# Altium integrated library TI Power Management Linear Regulator Single Channel LDO (400-7500mA).IntLib: 1408 symbols (part 53 of 60)
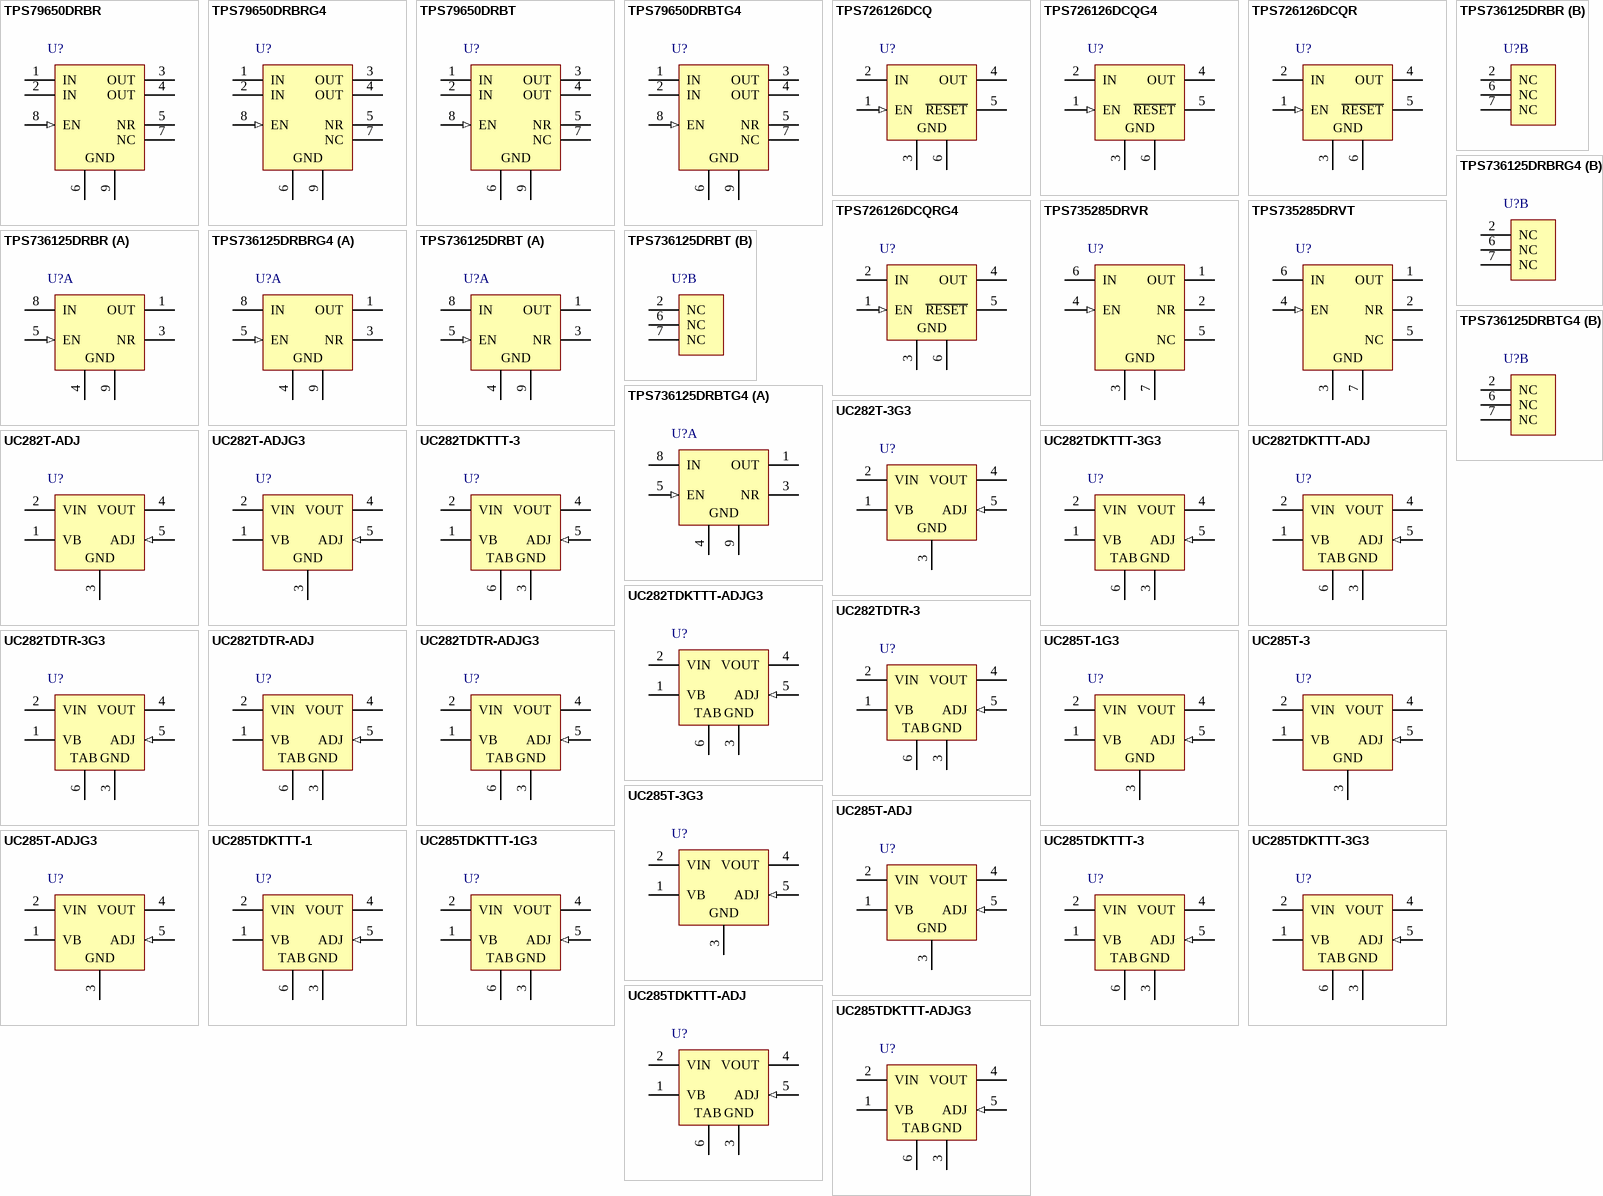
[diagram p102: symbols TPS79650DRBR to UC285TDKTTT-ADJG3]

## UC285T-3
designator U?
Single Output Fast Transient Response LDO, 5 A, Fixed 2.5 V Output, 2.8 to 7.5 V Input, 5-pin TO-220 (KC), -40 to 85 degC, Green (RoHS & no Sb/Br); Manufacturer: Texas Instruments; PartNumber: UC285T-3; Accuracy(%): 1; Fixed Output Options(V): 2.5; Iout(Max)(A): 5; Iq(Typ)(mA): 40; SubFamily: Single Channel LDO; Vdo(Typ)(mV): 350; Vin(Max)(V): 7.5; Vin(Min)(V): 2.8; DatasheetVersion: SLUS212F; PackageVersion: 4040208/F; PackageReference: KC5; PackageDescription: 5-Pin Plastic Flange Mount; Supplier 1: Digi-Key; Supplier Part Number 1: 296-15155-5-ND; Supplier 2: Mouser; Supplier Part Number 2: 595-UC285T-3; Eco-Plan: Green (RoHS & no Sb/Br); Vout Adj(Max)(V): 2.5; Vout Adj(Min)(V): 2.5; Mounting Technology: Through Hole; ComponentLink1Description: Manufacturer URL; ComponentLink1URL: http://www.ti.com/; ComponentLink2Description: Datasheet; ComponentLink2URL: http://www.ti.com/general/docs/lit/getliterature.tsp?genericPartNumber=UC285-3&fileType=pdf; ComponentLink3Description: Package Specification; ComponentLink3URL: http://www.ti.com/litv/pdf/msot008c
footprint TI-KC5 (FM, 5-Leads, Body 10.16x8.46mm, Pitch 1.7mm,)
pins: 1 VB (power) "Supplies power to all circuits of the regulator except the output power transistor. The 2-V headroom from VB to VOUT allows the use of a Darlington output stage for inherently low output impedance and fast response. (Dropout (See Datasheet)", 2 VIN (power) "Supplies the current to the collector of the output power transistor only. The dropout (VIN-VOUT) is under 100 mV for light loads; maximum dropout is 490 mV at 5 A for TJ = 0degreesC to 100degreesC. (Dropout is derated for (See Datasheet)", 3 GND (power) "For accurate results, the GND pin should be referenced to the load ground.", 4 VOUT (power) "This pin should be connected to the load via a low impedance path. Avoid connectors which add significant inductance and resistance. Note that even though a Kelvin sense is available through a 5-pin package, care must be (See Datasheet)", 5 ADJ (in) "In the adjustable version, the user programs the output voltage with two external resistors. The resistors should be 0.1% for high accuracy. The output amplifier is configured as a noninverting operational amplifier. The (See Datasheet)"

## UC285T-3G3
designator U?
Single Output Fast Transient Response LDO, 5 A, Fixed 2.5 V Output, 2.8 to 7.5 V Input, 5-pin TO-220 (KC), -40 to 85 degC, Green (RoHS & no Sb/Br); Manufacturer: Texas Instruments; PartNumber: UC285T-3G3; Accuracy(%): 1; Fixed Output Options(V): 2.5; Iout(Max)(A): 5; Iq(Typ)(mA): 40; SubFamily: Single Channel LDO; Vdo(Typ)(mV): 350; Vin(Max)(V): 7.5; Vin(Min)(V): 2.8; DatasheetVersion: SLUS212F; PackageVersion: 4040208/F; PackageReference: KC5; PackageDescription: 5-Pin Plastic Flange Mount; Supplier 1: Digi-Key; Supplier Part Number 1: UC285T-3G3-ND; Supplier 2: Mouser; Supplier Part Number 2: 595-UC285T-3G3; Eco-Plan: Green (RoHS & no Sb/Br); Vout Adj(Max)(V): 2.5; Vout Adj(Min)(V): 2.5; Mounting Technology: Through Hole; ComponentLink1Description: Manufacturer URL; ComponentLink1URL: http://www.ti.com/; ComponentLink2Description: Datasheet; ComponentLink2URL: http://www.ti.com/general/docs/lit/getliterature.tsp?genericPartNumber=UC285-3&fileType=pdf; ComponentLink3Description: Package Specification; ComponentLink3URL: http://www.ti.com/litv/pdf/msot008c
footprint TI-KC5 (FM, 5-Leads, Body 10.16x8.46mm, Pitch 1.7mm,)
pins: 1 VB (power) "Supplies power to all circuits of the regulator except the output power transistor. The 2-V headroom from VB to VOUT allows the use of a Darlington output stage for inherently low output impedance and fast response. (Dropout (See Datasheet)", 2 VIN (power) "Supplies the current to the collector of the output power transistor only. The dropout (VIN-VOUT) is under 100 mV for light loads; maximum dropout is 490 mV at 5 A for TJ = 0degreesC to 100degreesC. (Dropout is derated for (See Datasheet)", 3 GND (power) "For accurate results, the GND pin should be referenced to the load ground.", 4 VOUT (power) "This pin should be connected to the load via a low impedance path. Avoid connectors which add significant inductance and resistance. Note that even though a Kelvin sense is available through a 5-pin package, care must be (See Datasheet)", 5 ADJ (in) "In the adjustable version, the user programs the output voltage with two external resistors. The resistors should be 0.1% for high accuracy. The output amplifier is configured as a noninverting operational amplifier. The (See Datasheet)"

## UC285T-ADJ
designator U?
Single Output Fast Transient Response LDO, 5 A, Adjustable 1.2 to 6 V Output, 1.7 to 7.5 V Input, with Reverse Current Protection, 5-pin TO-220 (KC), -40 to 100 degC, Green (RoHS & no Sb/Br); Manufacturer: Texas Instruments; PartNumber: UC285T-ADJ; Accuracy(%): 1; Iout(Max)(A): 5; Iq(Typ)(mA): 8; SubFamily: Single Channel LDO; Vdo(Typ)(mV): 350; Vin(Max)(V): 7.5; Vin(Min)(V): 1.7; Vout Adj(Max)(V): 6; Vout Adj(Min)(V): 1.2; DatasheetVersion: SLUS212F; PackageVersion: 4040208/F; PackageReference: KC5; PackageDescription: 5-Pin Plastic Flange Mount; Supplier 1: Digi-Key; Supplier Part Number 1: 296-15156-5-ND; Supplier 2: Newark; Supplier Part Number 2: 61H5617; Supplier 3: Mouser; Supplier Part Number 3: 595-UC285T-ADJ; Eco-Plan: Green (RoHS & no Sb/Br); Mounting Technology: Through Hole; ComponentLink1Description: Manufacturer URL; ComponentLink1URL: http://www.ti.com/; ComponentLink2Description: Datasheet; ComponentLink2URL: http://www.ti.com/general/docs/lit/getliterature.tsp?genericPartNumber=UC285-ADJ&fileType=pdf; ComponentLink3Description: Package Specification; ComponentLink3URL: http://www.ti.com/litv/pdf/msot008c
footprint TI-KC5 (FM, 5-Leads, Body 10.16x8.46mm, Pitch 1.7mm,)
pins: 1 VB (power) "Supplies power to all circuits of the regulator except the output power transistor. The 2-V headroom from VB to VOUT allows the use of a Darlington output stage for inherently low output impedance and fast response. (Dropout (See Datasheet)", 2 VIN (power) "Supplies the current to the collector of the output power transistor only. The dropout (VIN-VOUT) is under 100 mV for light loads; maximum dropout is 490 mV at 5 A for TJ = 0degreesC to 100degreesC. (Dropout is derated for (See Datasheet)", 3 GND (power) "For accurate results, the GND pin should be referenced to the load ground.", 4 VOUT (power) "This pin should be connected to the load via a low impedance path. Avoid connectors which add significant inductance and resistance. Note that even though a Kelvin sense is available through a 5-pin package, care must be (See Datasheet)", 5 ADJ (in) "In the adjustable version, the user programs the output voltage with two external resistors. The resistors should be 0.1% for high accuracy. The output amplifier is configured as a noninverting operational amplifier. The (See Datasheet)"

## UC285T-ADJG3
designator U?
Single Output Fast Transient Response LDO, 5 A, Adjustable 1.2 to 6 V Output, 1.7 to 7.5 V Input, with Reverse Current Protection, 5-pin TO-220 (KC), -40 to 100 degC, Green (RoHS & no Sb/Br); Manufacturer: Texas Instruments; PartNumber: UC285T-ADJG3; Accuracy(%): 1; Iout(Max)(A): 5; Iq(Typ)(mA): 8; SubFamily: Single Channel LDO; Vdo(Typ)(mV): 350; Vin(Max)(V): 7.5; Vin(Min)(V): 1.7; Vout Adj(Max)(V): 6; Vout Adj(Min)(V): 1.2; DatasheetVersion: SLUS212F; PackageVersion: 4040208/F; PackageReference: KC5; PackageDescription: 5-Pin Plastic Flange Mount; Supplier 1: Digi-Key; Supplier Part Number 1: UC285T-ADJG3-ND; Supplier 2: Newark; Supplier Part Number 2: 14M4021; Supplier 3: Mouser; Supplier Part Number 3: 595-UC285T-ADJG3; Eco-Plan: Green (RoHS & no Sb/Br); Mounting Technology: Through Hole; ComponentLink1Description: Manufacturer URL; ComponentLink1URL: http://www.ti.com/; ComponentLink2Description: Datasheet; ComponentLink2URL: http://www.ti.com/general/docs/lit/getliterature.tsp?genericPartNumber=UC285-ADJ&fileType=pdf; ComponentLink3Description: Package Specification; ComponentLink3URL: http://www.ti.com/litv/pdf/msot008c
footprint TI-KC5 (FM, 5-Leads, Body 10.16x8.46mm, Pitch 1.7mm,)
pins: 1 VB (power) "Supplies power to all circuits of the regulator except the output power transistor. The 2-V headroom from VB to VOUT allows the use of a Darlington output stage for inherently low output impedance and fast response. (Dropout (See Datasheet)", 2 VIN (power) "Supplies the current to the collector of the output power transistor only. The dropout (VIN-VOUT) is under 100 mV for light loads; maximum dropout is 490 mV at 5 A for TJ = 0degreesC to 100degreesC. (Dropout is derated for (See Datasheet)", 3 GND (power) "For accurate results, the GND pin should be referenced to the load ground.", 4 VOUT (power) "This pin should be connected to the load via a low impedance path. Avoid connectors which add significant inductance and resistance. Note that even though a Kelvin sense is available through a 5-pin package, care must be (See Datasheet)", 5 ADJ (in) "In the adjustable version, the user programs the output voltage with two external resistors. The resistors should be 0.1% for high accuracy. The output amplifier is configured as a noninverting operational amplifier. The (See Datasheet)"

## UC285TDKTTT-1
designator U?
Single Output Fast Transient Response LDO, 5 A, Fixed 1.5 V Output, 1.8 to 7.5 V Input, 5-pin TO-220 (KC), -40 to 85 degC, Green (RoHS & no Sb/Br); Manufacturer: Texas Instruments; PartNumber: UC285TDKTTT-1; Accuracy(%): 1; Fixed Output Options(V): 1.5; Iout(Max)(A): 5; SubFamily: Single Channel LDO; Vdo(Typ)(mV): 350; Vin(Max)(V): 7.5; Vin(Min)(V): 1.8; DatasheetVersion: SLUS212F; PackageVersion: 4200577-3/F; PackageReference: KTT5; PackageDescription: 3-Pin Plastic Flange Mount, Body 10.16 x 10.34 mm, Pitch 1.7 mm; Supplier 1: Digi-Key; Supplier Part Number 1: 296-16015-2-ND; Supplier 2: Digi-Key; Supplier Part Number 2: 296-16015-1-ND; Supplier 3: Digi-Key; Supplier Part Number 3: 296-16015-6-ND; Supplier 4: Newark; Supplier Part Number 4: 87H4728; Supplier 5: Mouser; Supplier Part Number 5: 595-UC285TDKTTT-1; Eco-Plan: Green (RoHS & no Sb/Br); Vout Adj(Max)(V): 1.5; Vout Adj(Min)(V): 1.5; Mounting Technology: Surface Mount; Code_JEDEC: TO-263; ComponentLink1Description: Manufacturer URL; ComponentLink1URL: http://www.ti.com/; ComponentLink2Description: Datasheet; ComponentLink2URL: http://www.ti.com/general/docs/lit/getliterature.tsp?genericPartNumber=UC285-1&fileType=pdf; ComponentLink3Description: Package Specification; ComponentLink3URL: http://www.ti.com/litv/pdf/mpsf007e
footprint TI-KTT5_N (DPAK, 5-Leads, Body 10.16x8.925mm, Pitch 1.7mm, IPC Medium Density)
footprint TI-KTT5_L (DPAK, 5-Leads, Body 10.16x8.925mm, Pitch 1.7mm, IPC High Density)
footprint TI-KTT5_M (DPAK, 5-Leads, Body 10.16x8.925mm, Pitch 1.7mm, IPC Low Density)
pins: 1 VB (power) "Supplies power to all circuits of the regulator except the output power transistor. The 2-V headroom from VB to VOUT allows the use of a Darlington output stage for inherently low output impedance and fast response.(Dropout (See Datasheet)", 2 VIN (power) "Supplies the current to the collector of the output power transistor only. The dropout (VIN-VOUT) is under 100 mV for light loads; maximum dropout is 490 mV at 5 A for TJ = 0degreesC to 100degreesC. (Dropout is derated for (See Datasheet)", 3 GND (power) "For accurate results, the GND pin should be referenced to the load ground.", 4 VOUT (power) "This pin should be connected to the load via a low impedance path. Avoid connectors which add significant inductance and resistance. Note that even though a Kelvin sense is available through a 5-pin package, care must be (See Datasheet)", 5 ADJ (in) "In the adjustable version, the user programs the output voltage with two external resistors. The resistors should be 0.1% for high accuracy. The output amplifier is configured as a noninverting operational amplifier. The (See Datasheet)", 6 TAB (power) "Tab = Ground"

## UC285TDKTTT-1G3
designator U?
Single Output Fast Transient Response LDO, 5 A, Fixed 1.5 V Output, 1.8 to 7.5 V Input, 5-pin TO-220 (KC), -40 to 85 degC, Green (RoHS & no Sb/Br); Manufacturer: Texas Instruments; PartNumber: UC285TDKTTT-1G3; Accuracy(%): 1; Fixed Output Options(V): 1.5; Iout(Max)(A): 5; SubFamily: Single Channel LDO; Vdo(Typ)(mV): 350; Vin(Max)(V): 7.5; Vin(Min)(V): 1.8; DatasheetVersion: SLUS212F; PackageVersion: 4200577-3/F; PackageReference: KTT5; PackageDescription: 3-Pin Plastic Flange Mount, Body 10.16 x 10.34 mm, Pitch 1.7 mm; Supplier 1: Digi-Key; Supplier Part Number 1: UC285TDKTTT-1G3-ND; Supplier 2: Newark; Supplier Part Number 2: 73K9695; Supplier 3: Mouser; Supplier Part Number 3: 595-UC285TDKTTT-1G3; Eco-Plan: Green (RoHS & no Sb/Br); Vout Adj(Max)(V): 1.5; Vout Adj(Min)(V): 1.5; Mounting Technology: Surface Mount; Code_JEDEC: TO-263; ComponentLink1Description: Manufacturer URL; ComponentLink1URL: http://www.ti.com/; ComponentLink2Description: Datasheet; ComponentLink2URL: http://www.ti.com/general/docs/lit/getliterature.tsp?genericPartNumber=UC285-1&fileType=pdf; ComponentLink3Description: Package Specification; ComponentLink3URL: http://www.ti.com/litv/pdf/mpsf007e
footprint TI-KTT5_N (DPAK, 5-Leads, Body 10.16x8.925mm, Pitch 1.7mm, IPC Medium Density)
footprint TI-KTT5_L (DPAK, 5-Leads, Body 10.16x8.925mm, Pitch 1.7mm, IPC High Density)
footprint TI-KTT5_M (DPAK, 5-Leads, Body 10.16x8.925mm, Pitch 1.7mm, IPC Low Density)
pins: 1 VB (power) "Supplies power to all circuits of the regulator except the output power transistor. The 2-V headroom from VB to VOUT allows the use of a Darlington output stage for inherently low output impedance and fast response.(Dropout (See Datasheet)", 2 VIN (power) "Supplies the current to the collector of the output power transistor only. The dropout (VIN-VOUT) is under 100 mV for light loads; maximum dropout is 490 mV at 5 A for TJ = 0degreesC to 100degreesC. (Dropout is derated for (See Datasheet)", 3 GND (power) "For accurate results, the GND pin should be referenced to the load ground.", 4 VOUT (power) "This pin should be connected to the load via a low impedance path. Avoid connectors which add significant inductance and resistance. Note that even though a Kelvin sense is available through a 5-pin package, care must be (See Datasheet)", 5 ADJ (in) "In the adjustable version, the user programs the output voltage with two external resistors. The resistors should be 0.1% for high accuracy. The output amplifier is configured as a noninverting operational amplifier. The (See Datasheet)", 6 TAB (power) "Tab = Ground"

## UC285TDKTTT-3
designator U?
Single Output Fast Transient Response LDO, 5 A, Fixed 2.5 V Output, 2.8 to 7.5 V Input, 5-pin DDPAK (KTT), -40 to 85 degC, Green (RoHS & no Sb/Br); Manufacturer: Texas Instruments; PartNumber: UC285TDKTTT-3; Accuracy(%): 1; Fixed Output Options(V): 2.5; Iout(Max)(A): 5; Iq(Typ)(mA): 40; SubFamily: Single Channel LDO; Vdo(Typ)(mV): 350; Vin(Max)(V): 7.5; Vin(Min)(V): 2.8; DatasheetVersion: SLUS212F; PackageVersion: 4200577-3/F; PackageReference: KTT5; PackageDescription: 3-Pin Plastic Flange Mount, Body 10.16 x 10.34 mm, Pitch 1.7 mm; Supplier 1: Digi-Key; Supplier Part Number 1: 296-16017-2-ND; Supplier 2: Digi-Key; Supplier Part Number 2: 296-16017-1-ND; Supplier 3: Digi-Key; Supplier Part Number 3: 296-16017-6-ND; Supplier 4: Mouser; Supplier Part Number 4: 595-UC285TDKTTT-3; Eco-Plan: Green (RoHS & no Sb/Br); Vout Adj(Max)(V): 2.5; Vout Adj(Min)(V): 2.5; Mounting Technology: Surface Mount; Code_JEDEC: TO-263; ComponentLink1Description: Manufacturer URL; ComponentLink1URL: http://www.ti.com/; ComponentLink2Description: Datasheet; ComponentLink2URL: http://www.ti.com/general/docs/lit/getliterature.tsp?genericPartNumber=UC285-3&fileType=pdf; ComponentLink3Description: Package Specification; ComponentLink3URL: http://www.ti.com/litv/pdf/mpsf007e
footprint TI-KTT5_N (DPAK, 5-Leads, Body 10.16x8.925mm, Pitch 1.7mm, IPC Medium Density)
footprint TI-KTT5_L (DPAK, 5-Leads, Body 10.16x8.925mm, Pitch 1.7mm, IPC High Density)
footprint TI-KTT5_M (DPAK, 5-Leads, Body 10.16x8.925mm, Pitch 1.7mm, IPC Low Density)
pins: 1 VB (power) "Supplies power to all circuits of the regulator except the output power transistor. The 2-V headroom from VB to VOUT allows the use of a Darlington output stage for inherently low output impedance and fast response.(Dropout (See Datasheet)", 2 VIN (power) "Supplies the current to the collector of the output power transistor only. The dropout (VIN-VOUT) is under 100 mV for light loads; maximum dropout is 490 mV at 5 A for TJ = 0degreesC to 100degreesC. (Dropout is derated for (See Datasheet)", 3 GND (power) "For accurate results, the GND pin should be referenced to the load ground.", 4 VOUT (power) "This pin should be connected to the load via a low impedance path. Avoid connectors which add significant inductance and resistance. Note that even though a Kelvin sense is available through a 5-pin package, care must be (See Datasheet)", 5 ADJ (in) "In the adjustable version, the user programs the output voltage with two external resistors. The resistors should be 0.1% for high accuracy. The output amplifier is configured as a noninverting operational amplifier. The (See Datasheet)", 6 TAB (power) "Tab = Ground"

## UC285TDKTTT-3G3
designator U?
Single Output Fast Transient Response LDO, 5 A, Fixed 2.5 V Output, 2.8 to 7.5 V Input, 5-pin DDPAK (KTT), -40 to 85 degC, Green (RoHS & no Sb/Br); Manufacturer: Texas Instruments; PartNumber: UC285TDKTTT-3G3; Accuracy(%): 1; Fixed Output Options(V): 2.5; Iout(Max)(A): 5; Iq(Typ)(mA): 40; SubFamily: Single Channel LDO; Vdo(Typ)(mV): 350; Vin(Max)(V): 7.5; Vin(Min)(V): 2.8; DatasheetVersion: SLUS212F; PackageVersion: 4200577-3/F; PackageReference: KTT5; PackageDescription: 3-Pin Plastic Flange Mount, Body 10.16 x 10.34 mm, Pitch 1.7 mm; Supplier 1: Digi-Key; Supplier Part Number 1: UC285TDKTTT-3G3-ND; Supplier 2: Mouser; Supplier Part Number 2: 595-UC285TDKTTT-3G3; Eco-Plan: Green (RoHS & no Sb/Br); Vout Adj(Max)(V): 2.5; Vout Adj(Min)(V): 2.5; Mounting Technology: Surface Mount; Code_JEDEC: TO-263; ComponentLink1Description: Manufacturer URL; ComponentLink1URL: http://www.ti.com/; ComponentLink2Description: Datasheet; ComponentLink2URL: http://www.ti.com/general/docs/lit/getliterature.tsp?genericPartNumber=UC285-3&fileType=pdf; ComponentLink3Description: Package Specification; ComponentLink3URL: http://www.ti.com/litv/pdf/mpsf007e
footprint TI-KTT5_N (DPAK, 5-Leads, Body 10.16x8.925mm, Pitch 1.7mm, IPC Medium Density)
footprint TI-KTT5_L (DPAK, 5-Leads, Body 10.16x8.925mm, Pitch 1.7mm, IPC High Density)
footprint TI-KTT5_M (DPAK, 5-Leads, Body 10.16x8.925mm, Pitch 1.7mm, IPC Low Density)
pins: 1 VB (power) "Supplies power to all circuits of the regulator except the output power transistor. The 2-V headroom from VB to VOUT allows the use of a Darlington output stage for inherently low output impedance and fast response.(Dropout (See Datasheet)", 2 VIN (power) "Supplies the current to the collector of the output power transistor only. The dropout (VIN-VOUT) is under 100 mV for light loads; maximum dropout is 490 mV at 5 A for TJ = 0degreesC to 100degreesC. (Dropout is derated for (See Datasheet)", 3 GND (power) "For accurate results, the GND pin should be referenced to the load ground.", 4 VOUT (power) "This pin should be connected to the load via a low impedance path. Avoid connectors which add significant inductance and resistance. Note that even though a Kelvin sense is available through a 5-pin package, care must be (See Datasheet)", 5 ADJ (in) "In the adjustable version, the user programs the output voltage with two external resistors. The resistors should be 0.1% for high accuracy. The output amplifier is configured as a noninverting operational amplifier. The (See Datasheet)", 6 TAB (power) "Tab = Ground"

## UC285TDKTTT-ADJ
designator U?
Single Output Fast Transient Response LDO, 5 A, Adjustable 1.2 to 6 V Output, 1.7 to 7.5 V Input, with Reverse Current Protection, 5-pin DDPAK (KTT), -40 to 100 degC, Green (RoHS & no Sb/Br); Manufacturer: Texas Instruments; PartNumber: UC285TDKTTT-ADJ; Accuracy(%): 1; Iout(Max)(A): 5; Iq(Typ)(mA): 8; SubFamily: Single Channel LDO; Vdo(Typ)(mV): 350; Vin(Max)(V): 7.5; Vin(Min)(V): 1.7; Vout Adj(Max)(V): 6; Vout Adj(Min)(V): 1.2; DatasheetVersion: SLUS212F; PackageVersion: 4200577-3/F; PackageReference: KTT5; PackageDescription: 3-Pin Plastic Flange Mount, Body 10.16 x 10.34 mm, Pitch 1.7 mm; Supplier 1: Digi-Key; Supplier Part Number 1: 296-16018-2-ND; Supplier 2: Digi-Key; Supplier Part Number 2: 296-16018-1-ND; Supplier 3: Digi-Key; Supplier Part Number 3: 296-16018-6-ND; Supplier 4: Newark; Supplier Part Number 4: 87H4727; Supplier 5: Mouser; Supplier Part Number 5: 595-UC285TDKTTT-ADJ; Eco-Plan: Green (RoHS & no Sb/Br); Mounting Technology: Surface Mount; Code_JEDEC: TO-263; ComponentLink1Description: Manufacturer URL; ComponentLink1URL: http://www.ti.com/; ComponentLink2Description: Datasheet; ComponentLink2URL: http://www.ti.com/general/docs/lit/getliterature.tsp?genericPartNumber=UC285-ADJ&fileType=pdf; ComponentLink3Description: Package Specification; ComponentLink3URL: http://www.ti.com/litv/pdf/mpsf007e
footprint TI-KTT5_N (DPAK, 5-Leads, Body 10.16x8.925mm, Pitch 1.7mm, IPC Medium Density)
footprint TI-KTT5_L (DPAK, 5-Leads, Body 10.16x8.925mm, Pitch 1.7mm, IPC High Density)
footprint TI-KTT5_M (DPAK, 5-Leads, Body 10.16x8.925mm, Pitch 1.7mm, IPC Low Density)
pins: 1 VB (power) "Supplies power to all circuits of the regulator except the output power transistor. The 2-V headroom from VB to VOUT allows the use of a Darlington output stage for inherently low output impedance and fast response.(Dropout (See Datasheet)", 2 VIN (power) "Supplies the current to the collector of the output power transistor only. The dropout (VIN-VOUT) is under 100 mV for light loads; maximum dropout is 490 mV at 5 A for TJ = 0degreesC to 100degreesC. (Dropout is derated for (See Datasheet)", 3 GND (power) "For accurate results, the GND pin should be referenced to the load ground.", 4 VOUT (power) "This pin should be connected to the load via a low impedance path. Avoid connectors which add significant inductance and resistance. Note that even though a Kelvin sense is available through a 5-pin package, care must be (See Datasheet)", 5 ADJ (in) "In the adjustable version, the user programs the output voltage with two external resistors. The resistors should be 0.1% for high accuracy. The output amplifier is configured as a noninverting operational amplifier. The (See Datasheet)", 6 TAB (power) "Tab = Ground"

## UC285TDKTTT-ADJG3
designator U?
Single Output Fast Transient Response LDO, 5 A, Adjustable 1.2 to 6 V Output, 1.7 to 7.5 V Input, with Reverse Current Protection, 5-pin DDPAK (KTT), -40 to 100 degC, Green (RoHS & no Sb/Br); Manufacturer: Texas Instruments; PartNumber: UC285TDKTTT-ADJG3; Accuracy(%): 1; Iout(Max)(A): 5; Iq(Typ)(mA): 8; SubFamily: Single Channel LDO; Vdo(Typ)(mV): 350; Vin(Max)(V): 7.5; Vin(Min)(V): 1.7; Vout Adj(Max)(V): 6; Vout Adj(Min)(V): 1.2; DatasheetVersion: SLUS212F; PackageVersion: 4200577-3/F; PackageReference: KTT5; PackageDescription: 3-Pin Plastic Flange Mount, Body 10.16 x 10.34 mm, Pitch 1.7 mm; Supplier 1: Digi-Key; Supplier Part Number 1: UC285TDKTTT-ADJG3-ND; Supplier 2: Mouser; Supplier Part Number 2: 595-UC285TDKTTADJG3; Eco-Plan: Green (RoHS & no Sb/Br); Mounting Technology: Surface Mount; Code_JEDEC: TO-263; ComponentLink1Description: Manufacturer URL; ComponentLink1URL: http://www.ti.com/; ComponentLink2Description: Datasheet; ComponentLink2URL: http://www.ti.com/general/docs/lit/getliterature.tsp?genericPartNumber=UC285-ADJ&fileType=pdf; ComponentLink3Description: Package Specification; ComponentLink3URL: http://www.ti.com/litv/pdf/mpsf007e
footprint TI-KTT5_N (DPAK, 5-Leads, Body 10.16x8.925mm, Pitch 1.7mm, IPC Medium Density)
footprint TI-KTT5_L (DPAK, 5-Leads, Body 10.16x8.925mm, Pitch 1.7mm, IPC High Density)
footprint TI-KTT5_M (DPAK, 5-Leads, Body 10.16x8.925mm, Pitch 1.7mm, IPC Low Density)
pins: 1 VB (power) "Supplies power to all circuits of the regulator except the output power transistor. The 2-V headroom from VB to VOUT allows the use of a Darlington output stage for inherently low output impedance and fast response.(Dropout (See Datasheet)", 2 VIN (power) "Supplies the current to the collector of the output power transistor only. The dropout (VIN-VOUT) is under 100 mV for light loads; maximum dropout is 490 mV at 5 A for TJ = 0degreesC to 100degreesC. (Dropout is derated for (See Datasheet)", 3 GND (power) "For accurate results, the GND pin should be referenced to the load ground.", 4 VOUT (power) "This pin should be connected to the load via a low impedance path. Avoid connectors which add significant inductance and resistance. Note that even though a Kelvin sense is available through a 5-pin package, care must be (See Datasheet)", 5 ADJ (in) "In the adjustable version, the user programs the output voltage with two external resistors. The resistors should be 0.1% for high accuracy. The output amplifier is configured as a noninverting operational amplifier. The (See Datasheet)", 6 TAB (power) "Tab = Ground"

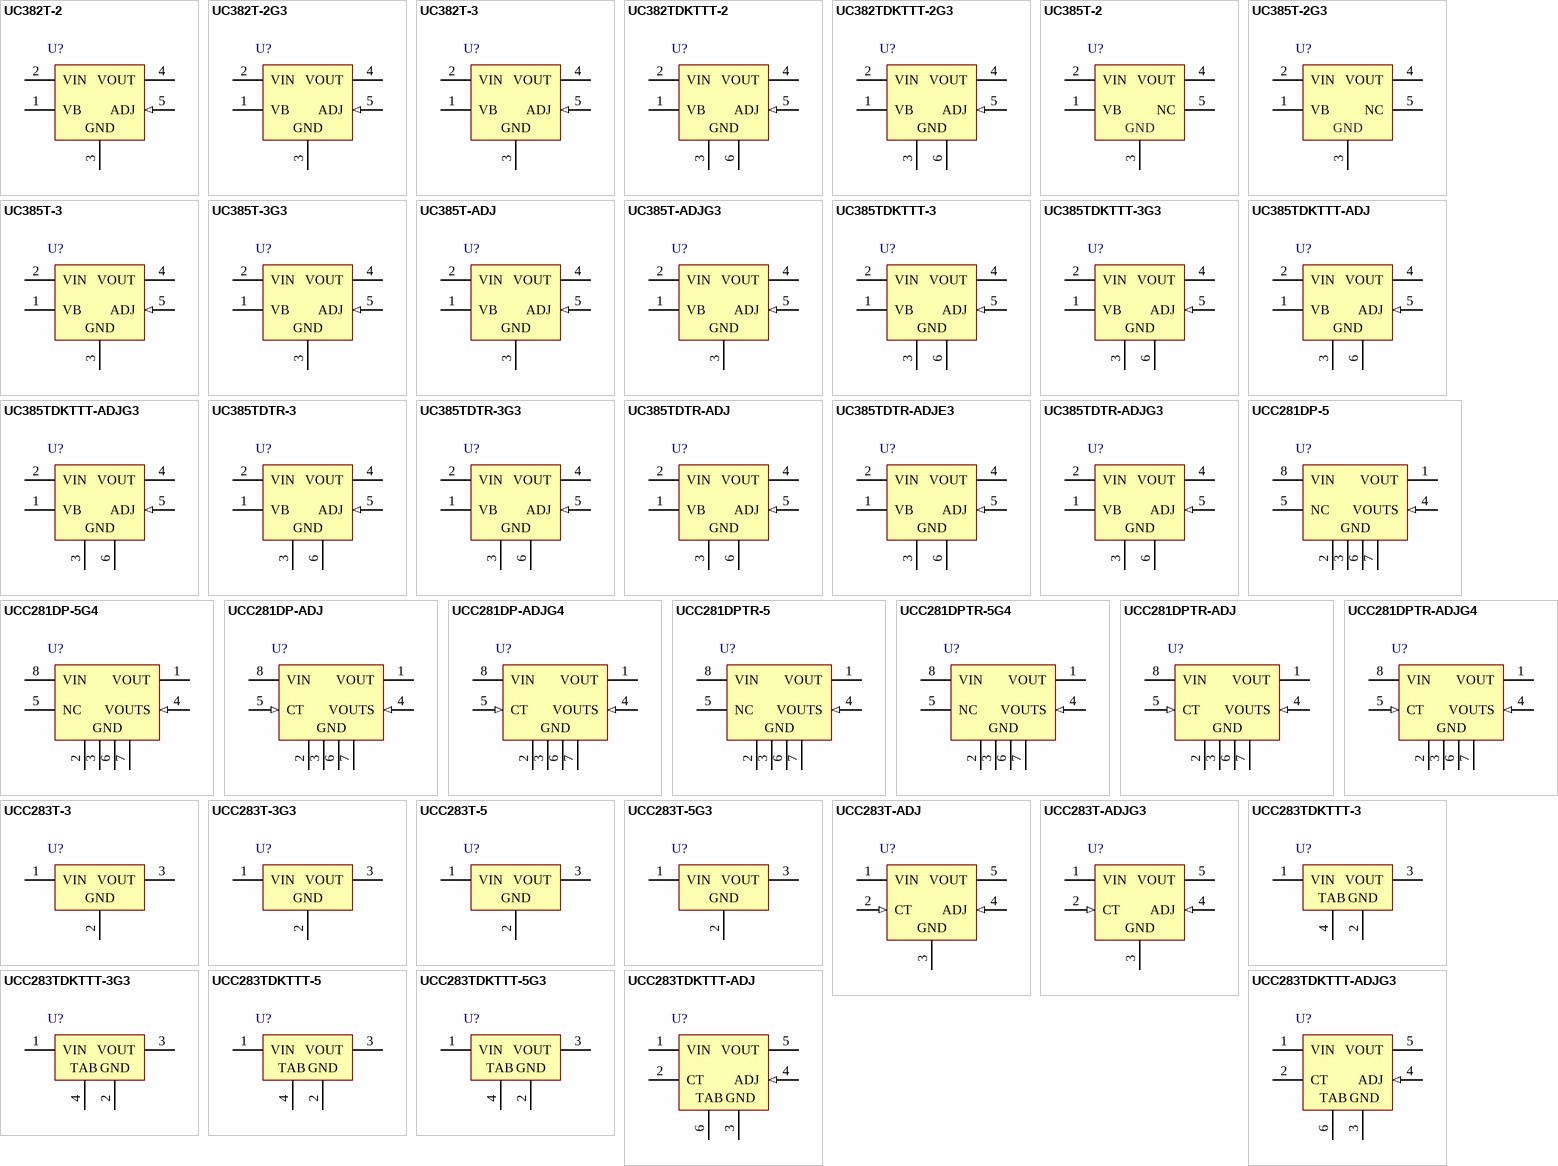
[diagram p45: symbols UC382T-2 to UCC283TDKTTT-ADJG3]

## UC382T-2
designator U?
Single Output Fast Transient Response LDO, 3 A, Fixed 2.1 V Output, 2.4 to 7.5 V Input, 5-pin TO-220 (KC), 0 to 100 degC, Green (RoHS & no Sb/Br); Manufacturer: Texas Instruments; PartNumber: UC382T-2; Accuracy(%): 1; Fixed Output Options(V): 2.1; Iout(Max)(A): 3; Iq(Typ)(mA): 18; SubFamily: Single Channel LDO; Vdo(Typ)(mV): 350; Vin(Max)(V): 7.5; Vin(Min)(V): 2.4; DatasheetVersion: SLUS317B; PackageVersion: 4040208/F; PackageReference: KC5; PackageDescription: 5-Pin Plastic Flange Mount; Supplier 1: Digi-Key; Supplier Part Number 1: 296-2802-5-ND; Supplier 2: Mouser; Supplier Part Number 2: 595-UC382T-2; Eco-Plan: Green (RoHS & no Sb/Br); Vout Adj(Max)(V): 2.1; Vout Adj(Min)(V): 2.1; Mounting Technology: Through Hole; ComponentLink1Description: Manufacturer URL; ComponentLink1URL: http://www.ti.com/; ComponentLink2Description: Datasheet; ComponentLink2URL: http://www.ti.com/general/docs/lit/getliterature.tsp?genericPartNumber=UC382-2&fileType=pdf; ComponentLink3Description: Package Specification; ComponentLink3URL: http://www.ti.com/litv/pdf/msot008c
footprint TI-KC5 (FM, 5-Leads, Body 10.16x8.46mm, Pitch 1.7mm,)
pins: 1 VB (power) "Supplies power to all circuits of the regulator except the output power transistor. The 2-V headroom from VB to VOUT allows the use of a Darlington output stage for inherently low output impedance and fast response. (Dropout (See Datasheet)", 2 VIN (power) "Supplies the current to the collector of the output power transistor only. The dropout (VIN-VOUT) is under 100 mV for light loads; maximum dropout is 490 mV at 5 A for TJ = 0degreesC to 100degreesC. (Dropout is derated for (See Datasheet)", 3 GND (power) "For accurate results, the GND pin should be referenced to the load ground.", 4 VOUT (power) "This pin should be connected to the load via a low impedance path. Avoid connectors which add significant inductance and resistance. Note that even though a Kelvin sense is available through a 5-pin package, care must be (See Datasheet)", 5 ADJ (in) "In the adjustable version, the user programs the output voltage with two external resistors. The resistors should be 0.1% for high accuracy. The output amplifier is configured as a noninverting operational amplifier. The (See Datasheet)"

## UC382T-2G3
designator U?
Single Output Fast Transient Response LDO, 3 A, Fixed 2.1 V Output, 2.4 to 7.5 V Input, 5-pin TO-220 (KC), 0 to 100 degC, Green (RoHS & no Sb/Br); Manufacturer: Texas Instruments; PartNumber: UC382T-2G3; Accuracy(%): 1; Fixed Output Options(V): 2.1; Iout(Max)(A): 3; Iq(Typ)(mA): 18; SubFamily: Single Channel LDO; Vdo(Typ)(mV): 350; Vin(Max)(V): 7.5; Vin(Min)(V): 2.4; DatasheetVersion: SLUS317B; PackageVersion: 4040208/F; PackageReference: KC5; PackageDescription: 5-Pin Plastic Flange Mount; Supplier 1: Digi-Key; Supplier Part Number 1: UC382T-2G3-ND; Supplier 2: Mouser; Supplier Part Number 2: 595-UC382T-2G3; Eco-Plan: Green (RoHS & no Sb/Br); Vout Adj(Max)(V): 2.1; Vout Adj(Min)(V): 2.1; Mounting Technology: Through Hole; ComponentLink1Description: Manufacturer URL; ComponentLink1URL: http://www.ti.com/; ComponentLink2Description: Datasheet; ComponentLink2URL: http://www.ti.com/general/docs/lit/getliterature.tsp?genericPartNumber=UC382-2&fileType=pdf; ComponentLink3Description: Package Specification; ComponentLink3URL: http://www.ti.com/litv/pdf/msot008c
footprint TI-KC5 (FM, 5-Leads, Body 10.16x8.46mm, Pitch 1.7mm,)
pins: 1 VB (power) "Supplies power to all circuits of the regulator except the output power transistor. The 2-V headroom from VB to VOUT allows the use of a Darlington output stage for inherently low output impedance and fast response. (Dropout (See Datasheet)", 2 VIN (power) "Supplies the current to the collector of the output power transistor only. The dropout (VIN-VOUT) is under 100 mV for light loads; maximum dropout is 490 mV at 5 A for TJ = 0degreesC to 100degreesC. (Dropout is derated for (See Datasheet)", 3 GND (power) "For accurate results, the GND pin should be referenced to the load ground.", 4 VOUT (power) "This pin should be connected to the load via a low impedance path. Avoid connectors which add significant inductance and resistance. Note that even though a Kelvin sense is available through a 5-pin package, care must be (See Datasheet)", 5 ADJ (in) "In the adjustable version, the user programs the output voltage with two external resistors. The resistors should be 0.1% for high accuracy. The output amplifier is configured as a noninverting operational amplifier. The (See Datasheet)"

## UC382T-3
designator U?
Single Output Fast Transient Response LDO, 3 A, Fixed 2.5 V Output, 2.8 to 7.5 V Input, 5-pin TO-220 (KC), 0 to 100 degC, Green (RoHS & no Sb/Br); Manufacturer: Texas Instruments; PartNumber: UC382T-3; Accuracy(%): 1; Fixed Output Options(V): 2.5; Iout(Max)(A): 3; Iq(Typ)(mA): 18; SubFamily: Single Channel LDO; Vdo(Typ)(mV): 350; Vin(Max)(V): 7.5; Vin(Min)(V): 2.8; DatasheetVersion: SLUS317B; PackageVersion: 4040208/F; PackageReference: KC5; PackageDescription: 5-Pin Plastic Flange Mount; Supplier 1: Digi-Key; Supplier Part Number 1: 296-2803-5-ND; Supplier 2: Mouser; Supplier Part Number 2: 595-UC382T-3; Eco-Plan: Green (RoHS & no Sb/Br); Vout Adj(Max)(V): 2.5; Vout Adj(Min)(V): 2.5; Mounting Technology: Through Hole; ComponentLink1Description: Manufacturer URL; ComponentLink1URL: http://www.ti.com/; ComponentLink2Description: Datasheet; ComponentLink2URL: http://www.ti.com/general/docs/lit/getliterature.tsp?genericPartNumber=UC382-3&fileType=pdf; ComponentLink3Description: Package Specification; ComponentLink3URL: http://www.ti.com/litv/pdf/msot008c
footprint TI-KC5 (FM, 5-Leads, Body 10.16x8.46mm, Pitch 1.7mm,)
pins: 1 VB (power) "Supplies power to all circuits of the regulator except the output power transistor. The 2-V headroom from VB to VOUT allows the use of a Darlington output stage for inherently low output impedance and fast response. (Dropout (See Datasheet)", 2 VIN (power) "Supplies the current to the collector of the output power transistor only. The dropout (VIN-VOUT) is under 100 mV for light loads; maximum dropout is 490 mV at 5 A for TJ = 0degreesC to 100degreesC. (Dropout is derated for (See Datasheet)", 3 GND (power) "For accurate results, the GND pin should be referenced to the load ground.", 4 VOUT (power) "This pin should be connected to the load via a low impedance path. Avoid connectors which add significant inductance and resistance. Note that even though a Kelvin sense is available through a 5-pin package, care must be (See Datasheet)", 5 ADJ (in) "In the adjustable version, the user programs the output voltage with two external resistors. The resistors should be 0.1% for high accuracy. The output amplifier is configured as a noninverting operational amplifier. The (See Datasheet)"

## UC382TDKTTT-2
designator U?
Single Output Fast Transient Response LDO, 3 A, Fixed 2.1 V Output, 2.4 to 7.5 V Input, 5-pin DDPAK (KTT), 0 to 70 degC, Green (RoHS & no Sb/Br); Manufacturer: Texas Instruments; PartNumber: UC382TDKTTT-2; Accuracy(%): 1; Fixed Output Options(V): 2.1; Iout(Max)(A): 3; Iq(Typ)(mA): 18; SubFamily: Single Channel LDO; Vdo(Typ)(mV): 350; Vin(Max)(V): 7.5; Vin(Min)(V): 2.4; DatasheetVersion: SLUS317B; PackageVersion: 4200577-3/F; PackageReference: KTT5; PackageDescription: 3-Pin Plastic Flange Mount, Body 10.16 x 10.34 mm, Pitch 1.7 mm; Supplier 1: Digi-Key; Supplier Part Number 1: 296-16020-2-ND; Supplier 2: Digi-Key; Supplier Part Number 2: 296-16020-1-ND; Supplier 3: Digi-Key; Supplier Part Number 3: 296-16020-6-ND; Supplier 4: Newark; Supplier Part Number 4: 87H4739; Supplier 5: Mouser; Supplier Part Number 5: 595-UC382TDKTTT-2; Eco-Plan: Green (RoHS & no Sb/Br); Vout Adj(Max)(V): 2.1; Vout Adj(Min)(V): 2.1; Mounting Technology: Surface Mount; Code_JEDEC: TO-263; ComponentLink1Description: Manufacturer URL; ComponentLink1URL: http://www.ti.com/; ComponentLink2Description: Datasheet; ComponentLink2URL: http://www.ti.com/general/docs/lit/getliterature.tsp?genericPartNumber=UC382-2&fileType=pdf; ComponentLink3Description: Package Specification; ComponentLink3URL: http://www.ti.com/litv/pdf/mpsf007e
footprint TI-KTT5_N (DPAK, 5-Leads, Body 10.16x8.925mm, Pitch 1.7mm, IPC Medium Density)
footprint TI-KTT5_L (DPAK, 5-Leads, Body 10.16x8.925mm, Pitch 1.7mm, IPC High Density)
footprint TI-KTT5_M (DPAK, 5-Leads, Body 10.16x8.925mm, Pitch 1.7mm, IPC Low Density)
pins: 1 VB (power) "Supplies power to all circuits of the regulator except the output power transistor. The 2-V headroom from VB to VOUT allows the use of a Darlington output stage for inherently low output impedance and fast response. (Dropout (See Datasheet)", 2 VIN (power) "Supplies the current to the collector of the output power transistor only. The dropout (VIN-VOUT) is under 100 mV for light loads; maximum dropout is 490 mV at 5 A for TJ = 0degreesC to 100degreesC. (Dropout is derated for (See Datasheet)", 3 GND (power) "For accurate results, the GND pin should be referenced to the load ground", 4 VOUT (power) "This pin should be connected to the load via a low impedance path. Avoid connectors which add significant inductance and resistance. Note that even though a Kelvin sense is available through a 5-pin package, care must be (See Datasheet)", 5 ADJ (in) "In the adjustable version, the user programs the output voltage with two external resistors. The resistors should be 0.1% for high accuracy. The output amplifier is configured as a noninverting operational amplifier. The (See Datasheet)", 6 GND (power) "For accurate results, the GND pin should be referenced to the load ground"

## UC382TDKTTT-2G3
designator U?
Single Output Fast Transient Response LDO, 3 A, Fixed 2.1 V Output, 2.4 to 7.5 V Input, 5-pin DDPAK (KTT), 0 to 70 degC, Green (RoHS & no Sb/Br); Manufacturer: Texas Instruments; PartNumber: UC382TDKTTT-2G3; Accuracy(%): 1; Fixed Output Options(V): 2.1; Iout(Max)(A): 3; Iq(Typ)(mA): 18; SubFamily: Single Channel LDO; Vdo(Typ)(mV): 350; Vin(Max)(V): 7.5; Vin(Min)(V): 2.4; DatasheetVersion: SLUS317B; PackageVersion: 4200577-3/F; PackageReference: KTT5; PackageDescription: 3-Pin Plastic Flange Mount, Body 10.16 x 10.34 mm, Pitch 1.7 mm; Supplier 1: Digi-Key; Supplier Part Number 1: UC382TDKTTT-2G3-ND; Supplier 2: Mouser; Supplier Part Number 2: 595-UC382TDKTTT-2G3; Eco-Plan: Green (RoHS & no Sb/Br); Vout Adj(Max)(V): 2.1; Vout Adj(Min)(V): 2.1; Mounting Technology: Surface Mount; Code_JEDEC: TO-263; ComponentLink1Description: Manufacturer URL; ComponentLink1URL: http://www.ti.com/; ComponentLink2Description: Datasheet; ComponentLink2URL: http://www.ti.com/general/docs/lit/getliterature.tsp?genericPartNumber=UC382-2&fileType=pdf; ComponentLink3Description: Package Specification; ComponentLink3URL: http://www.ti.com/litv/pdf/mpsf007e
footprint TI-KTT5_N (DPAK, 5-Leads, Body 10.16x8.925mm, Pitch 1.7mm, IPC Medium Density)
footprint TI-KTT5_L (DPAK, 5-Leads, Body 10.16x8.925mm, Pitch 1.7mm, IPC High Density)
footprint TI-KTT5_M (DPAK, 5-Leads, Body 10.16x8.925mm, Pitch 1.7mm, IPC Low Density)
pins: 1 VB (power) "Supplies power to all circuits of the regulator except the output power transistor. The 2-V headroom from VB to VOUT allows the use of a Darlington output stage for inherently low output impedance and fast response. (Dropout (See Datasheet)", 2 VIN (power) "Supplies the current to the collector of the output power transistor only. The dropout (VIN-VOUT) is under 100 mV for light loads; maximum dropout is 490 mV at 5 A for TJ = 0degreesC to 100degreesC. (Dropout is derated for (See Datasheet)", 3 GND (power) "For accurate results, the GND pin should be referenced to the load ground", 4 VOUT (power) "This pin should be connected to the load via a low impedance path. Avoid connectors which add significant inductance and resistance. Note that even though a Kelvin sense is available through a 5-pin package, care must be (See Datasheet)", 5 ADJ (in) "In the adjustable version, the user programs the output voltage with two external resistors. The resistors should be 0.1% for high accuracy. The output amplifier is configured as a noninverting operational amplifier. The (See Datasheet)", 6 GND (power) "For accurate results, the GND pin should be referenced to the load ground"

## UC385T-2
designator U?
Single Output Fast Transient Response LDO, 5 A, Fixed 2.1 V Output, 2.4 to 7.5 V Input, 5-pin TO-220 (KC), 0 to 70 degC, Green (RoHS & no Sb/Br); Manufacturer: Texas Instruments; PartNumber: UC385T-2; Accuracy(%): 1; Fixed Output Options(V): 2.1; Iout(Max)(A): 5; Iq(Typ)(mA): 8; SubFamily: Single Channel LDO; Vdo(Typ)(mV): 350; Vin(Max)(V): 7.5; Vin(Min)(V): 2.4; DatasheetVersion: SLUS212F; PackageVersion: 4040208/F; PackageReference: KC5; PackageDescription: 5-Pin Plastic Flange Mount; Supplier 1: Digi-Key; Supplier Part Number 1: 296-2810-5-ND; Supplier 2: Mouser; Supplier Part Number 2: 595-UC385T-2; Eco-Plan: Green (RoHS & no Sb/Br); Vout Adj(Max)(V): 2.1; Vout Adj(Min)(V): 2.1; Mounting Technology: Through Hole; ComponentLink1Description: Manufacturer URL; ComponentLink1URL: http://www.ti.com/; ComponentLink2Description: Datasheet; ComponentLink2URL: http://www.ti.com/general/docs/lit/getliterature.tsp?genericPartNumber=UC385-2&fileType=pdf; ComponentLink3Description: Package Specification; ComponentLink3URL: http://www.ti.com/litv/pdf/msot008c
footprint TI-KC5 (FM, 5-Leads, Body 10.16x8.46mm, Pitch 1.7mm,)
pins: 1 VB (power) "Supplies power to all circuits of the regulator except the output power transistor. The 2-V headroom from VB to VOUT allows the use of a Darlington output stage for inherently low output impedance and fast response.", 2 VIN (power) "Supplies the current to the collector of the output power transistor only. The dropout (VIN-VOUT) is under 100 mV for light loads; maximum dropout is 490 mV at 5 A for TJ = 0degreesC to 100degreesC.", 3 GND (power) "For accurate results, the GND pin should be referenced to the load ground.", 4 VOUT (power) "This pin should be connected to the load via a low impedance path. Avoid connectors which add significant inductance and resistance. Note that even though a Kelvin sense is available through a 5-pin package, care must be (See Datasheet)", 5 NC

## UC385T-2G3
designator U?
Single Output Fast Transient Response LDO, 5 A, Fixed 2.1 V Output, 2.4 to 7.5 V Input, 5-pin TO-220 (KC), 0 to 70 degC, Green (RoHS & no Sb/Br); Manufacturer: Texas Instruments; PartNumber: UC385T-2G3; Accuracy(%): 1; Fixed Output Options(V): 2.1; Iout(Max)(A): 5; Iq(Typ)(mA): 8; SubFamily: Single Channel LDO; Vdo(Typ)(mV): 350; Vin(Max)(V): 7.5; Vin(Min)(V): 2.4; DatasheetVersion: SLUS212F; PackageVersion: 4040208/F; PackageReference: KC5; PackageDescription: 5-Pin Plastic Flange Mount; Supplier 1: Digi-Key; Supplier Part Number 1: UC385T-2G3-ND; Supplier 2: Mouser; Supplier Part Number 2: 595-UC385T-2G3; Eco-Plan: Green (RoHS & no Sb/Br); Vout Adj(Max)(V): 2.1; Vout Adj(Min)(V): 2.1; Mounting Technology: Through Hole; ComponentLink1Description: Manufacturer URL; ComponentLink1URL: http://www.ti.com/; ComponentLink2Description: Datasheet; ComponentLink2URL: http://www.ti.com/general/docs/lit/getliterature.tsp?genericPartNumber=UC385-2&fileType=pdf; ComponentLink3Description: Package Specification; ComponentLink3URL: http://www.ti.com/litv/pdf/msot008c
footprint TI-KC5 (FM, 5-Leads, Body 10.16x8.46mm, Pitch 1.7mm,)
pins: 1 VB (power) "Supplies power to all circuits of the regulator except the output power transistor. The 2-V headroom from VB to VOUT allows the use of a Darlington output stage for inherently low output impedance and fast response.", 2 VIN (power) "Supplies the current to the collector of the output power transistor only. The dropout (VIN-VOUT) is under 100 mV for light loads; maximum dropout is 490 mV at 5 A for TJ = 0degreesC to 100degreesC.", 3 GND (power) "For accurate results, the GND pin should be referenced to the load ground.", 4 VOUT (power) "This pin should be connected to the load via a low impedance path. Avoid connectors which add significant inductance and resistance. Note that even though a Kelvin sense is available through a 5-pin package, care must be (See Datasheet)", 5 NC

## UC385T-3
designator U?
Single Output Fast Transient Response LDO, 5 A, Fixed 2.5 V Output, 2.8 to 7.5 V Input, 5-pin TO-220 (KC), 0 to 70 degC, Green (RoHS & no Sb/Br); Manufacturer: Texas Instruments; PartNumber: UC385T-3; Accuracy(%): 1; Fixed Output Options(V): 2.5; Iout(Max)(A): 5; Iq(Typ)(mA): 8; SubFamily: Single Channel LDO; Vdo(Typ)(mV): 350; Vin(Max)(V): 7.5; Vin(Min)(V): 2.8; DatasheetVersion: SLUS212F; PackageVersion: 4040208/F; PackageReference: KC5; PackageDescription: 5-Pin Plastic Flange Mount; Supplier 1: Digi-Key; Supplier Part Number 1: 296-2811-5-ND; Supplier 2: Mouser; Supplier Part Number 2: 595-UC385T-3; Eco-Plan: Green (RoHS & no Sb/Br); Vout Adj(Max)(V): 2.5; Vout Adj(Min)(V): 2.5; Mounting Technology: Through Hole; ComponentLink1Description: Manufacturer URL; ComponentLink1URL: http://www.ti.com/; ComponentLink2Description: Datasheet; ComponentLink2URL: http://www.ti.com/general/docs/lit/getliterature.tsp?genericPartNumber=UC385-3&fileType=pdf; ComponentLink3Description: Package Specification; ComponentLink3URL: http://www.ti.com/litv/pdf/msot008c
footprint TI-KC5 (FM, 5-Leads, Body 10.16x8.46mm, Pitch 1.7mm,)
pins: 1 VB (power) "Supplies power to all circuits of the regulator except the output power transistor. The 2-V headroom from VB to VOUT allows the use of a Darlington output stage for inherently low output impedance and fast response. (Dropout (See Datasheet)", 2 VIN (power) "Supplies the current to the collector of the output power transistor only. The dropout (VIN-VOUT) is under 100 mV for light loads; maximum dropout is 490 mV at 5 A for TJ = 0degreesC to 100degreesC. (Dropout is derated for (See Datasheet)", 3 GND (power) "For accurate results, the GND pin should be referenced to the load ground.", 4 VOUT (power) "This pin should be connected to the load via a low impedance path. Avoid connectors which add significant inductance and resistance. Note that even though a Kelvin sense is available through a 5-pin package, care must be (See Datasheet)", 5 ADJ (in) "In the adjustable version, the user programs the output voltage with two external resistors. The resistors should be 0.1% for high accuracy. The output amplifier is configured as a noninverting operational amplifier. The (See Datasheet)"

## UC385T-3G3
designator U?
Single Output Fast Transient Response LDO, 5 A, Fixed 2.5 V Output, 2.8 to 7.5 V Input, 5-pin TO-220 (KC), 0 to 70 degC, Green (RoHS & no Sb/Br); Manufacturer: Texas Instruments; PartNumber: UC385T-3G3; Accuracy(%): 1; Fixed Output Options(V): 2.5; Iout(Max)(A): 5; Iq(Typ)(mA): 8; SubFamily: Single Channel LDO; Vdo(Typ)(mV): 350; Vin(Max)(V): 7.5; Vin(Min)(V): 2.8; DatasheetVersion: SLUS212F; PackageVersion: 4040208/F; PackageReference: KC5; PackageDescription: 5-Pin Plastic Flange Mount; Supplier 1: Digi-Key; Supplier Part Number 1: UC385T-3G3-ND; Supplier 2: Mouser; Supplier Part Number 2: 595-UC385T-3G3; Eco-Plan: Green (RoHS & no Sb/Br); Vout Adj(Max)(V): 2.5; Vout Adj(Min)(V): 2.5; Mounting Technology: Through Hole; ComponentLink1Description: Manufacturer URL; ComponentLink1URL: http://www.ti.com/; ComponentLink2Description: Datasheet; ComponentLink2URL: http://www.ti.com/general/docs/lit/getliterature.tsp?genericPartNumber=UC385-3&fileType=pdf; ComponentLink3Description: Package Specification; ComponentLink3URL: http://www.ti.com/litv/pdf/msot008c
footprint TI-KC5 (FM, 5-Leads, Body 10.16x8.46mm, Pitch 1.7mm,)
pins: 1 VB (power) "Supplies power to all circuits of the regulator except the output power transistor. The 2-V headroom from VB to VOUT allows the use of a Darlington output stage for inherently low output impedance and fast response. (Dropout (See Datasheet)", 2 VIN (power) "Supplies the current to the collector of the output power transistor only. The dropout (VIN-VOUT) is under 100 mV for light loads; maximum dropout is 490 mV at 5 A for TJ = 0degreesC to 100degreesC. (Dropout is derated for (See Datasheet)", 3 GND (power) "For accurate results, the GND pin should be referenced to the load ground.", 4 VOUT (power) "This pin should be connected to the load via a low impedance path. Avoid connectors which add significant inductance and resistance. Note that even though a Kelvin sense is available through a 5-pin package, care must be (See Datasheet)", 5 ADJ (in) "In the adjustable version, the user programs the output voltage with two external resistors. The resistors should be 0.1% for high accuracy. The output amplifier is configured as a noninverting operational amplifier. The (See Datasheet)"

## UC385T-ADJ
designator U?
Single Output Fast Transient Response LDO, 5 A, Adjustable 1.2 to 6 V Output, 1.7 to 7.5 V Input, with Reverse Current Protection, 5-pin TO-220 (KC), 0 to 70 degC, Green (RoHS & no Sb/Br); Manufacturer: Texas Instruments; PartNumber: UC385T-ADJ; Accuracy(%): 1; Iout(Max)(A): 5; Iq(Typ)(mA): 8; SubFamily: Single Channel LDO; Vdo(Typ)(mV): 350; Vin(Max)(V): 7.5; Vin(Min)(V): 1.7; Vout Adj(Max)(V): 6; Vout Adj(Min)(V): 1.2; DatasheetVersion: SLUS212F; PackageVersion: 4040208/F; PackageReference: KC5; PackageDescription: 5-Pin Plastic Flange Mount; Supplier 1: Digi-Key; Supplier Part Number 1: 296-2812-5-ND; Supplier 2: Newark; Supplier Part Number 2: 77C3349; Supplier 3: Mouser; Supplier Part Number 3: 595-UC385T-ADJ; Eco-Plan: Green (RoHS & no Sb/Br); Mounting Technology: Through Hole; ComponentLink1Description: Manufacturer URL; ComponentLink1URL: http://www.ti.com/; ComponentLink2Description: Datasheet; ComponentLink2URL: http://www.ti.com/general/docs/lit/getliterature.tsp?genericPartNumber=UC385-ADJ&fileType=pdf; ComponentLink3Description: Package Specification; ComponentLink3URL: http://www.ti.com/litv/pdf/msot008c
footprint TI-KC5 (FM, 5-Leads, Body 10.16x8.46mm, Pitch 1.7mm,)
pins: 1 VB (power) "Supplies power to all circuits of the regulator except the output power transistor. The 2-V headroom from VB to VOUT allows the use of a Darlington output stage for inherently low output impedance and fast response. (Dropout (See Datasheet)", 2 VIN (power) "Supplies the current to the collector of the output power transistor only. The dropout (VIN-VOUT) is under 100 mV for light loads; maximum dropout is 490 mV at 5 A for TJ = 0degreesC to 100degreesC. (Dropout is derated for (See Datasheet)", 3 GND (power) "For accurate results, the GND pin should be referenced to the load ground.", 4 VOUT (power) "This pin should be connected to the load via a low impedance path. Avoid connectors which add significant inductance and resistance. Note that even though a Kelvin sense is available through a 5-pin package, care must be (See Datasheet)", 5 ADJ (in) "In the adjustable version, the user programs the output voltage with two external resistors. The resistors should be 0.1% for high accuracy. The output amplifier is configured as a noninverting operational amplifier. The (See Datasheet)"